# EAGLE library part TFBS4711 (library smd_other)
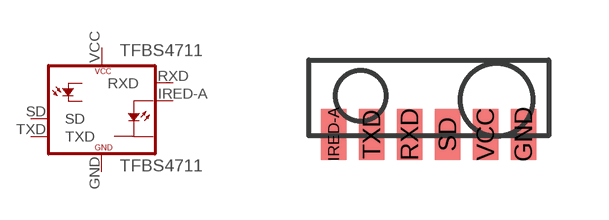
[diagram p0: symbol with the pads of TFBS4711; footprint TFBS4711]

Designator prefix -

## TFBS4711  [TFBS4711]
GND  GND  pwr
IRED-A  IRED-A  pas
RXD  RXD  out
SD  SD  in
TXD  TXD  in
VCC  VCC  pwr

## Footprint TFBS4711 (pad centres in mm)
smd 0.64 x 1.27: GND 5.375,0.035; IRED-A 0.625,0.035; RXD 2.525,0.035; SD 3.475,0.035; TXD 1.575,0.035; VCC 4.425,0.035